# Altium footprint library Relay-LCC120.PcbLib: 2 footprints
Each footprint in its own frame and in the unit in brackets; x right, y up, seen from the top. Pads: shape width x height; smd on the part's side, far side on the other; paste and mask are expansions set on the pad; w line width, h text height; cw(c..) or ccw(c..) is an arc to the next point about the centre after c.
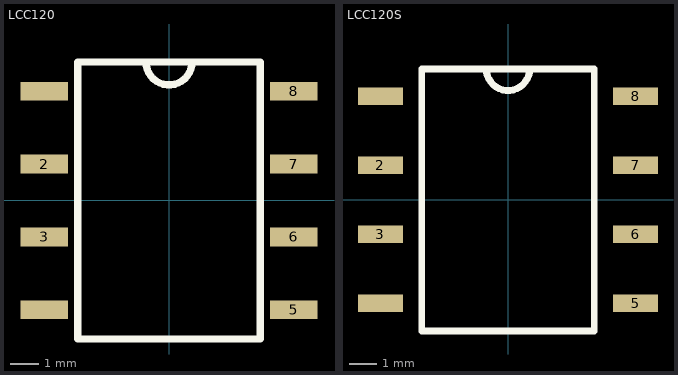
[diagram p0: the footprints below, top view; thin cyan lines are the x and y axes]

## LCC120 [mm]
height 2.159
pads (8):
  rect 1.65x0.65 smd: 2(-4.35,1.27) 3(-4.35,-1.27) 5(4.35,-3.81) 6(4.35,-1.27) 7(4.35,1.27) 8(4.35,3.81) ""(-4.35,-3.81) ""(-4.35,3.81)
Top Overlay:
  lines w0.254: -0.8,4.826 ccw(c0,4.826) 0.8,4.826 ; -3.175,-4.826 3.175,-4.826 3.175,4.826 -3.175,4.826 -3.175,-4.826
3D body: height 4.44, standoff -0.01, extent -4.763,-4.826 4.763,4.826

## LCC120S [mm] "SSR Relay SPDT Form C, 170mA 0~250V"
height 4.445
pads (8):
  rect 1.65x0.65 smd: 2(-4.7,1.27) 3(-4.7,-1.27) 5(4.7,-3.81) 6(4.7,-1.27) 7(4.7,1.27) 8(4.7,3.81) ""(-4.7,-3.81) ""(-4.7,3.81)
Top Overlay:
  lines w0.254: -0.8,4.826 ccw(c0,4.826) 0.8,4.826 ; -3.175,-4.826 3.175,-4.826 3.175,4.826 -3.175,4.826 -3.175,-4.826
3D body: height 5.08, standoff 0, extent -5.15,-4.953 5.15,4.957